# EAGLE library part M15 (library Connectors)
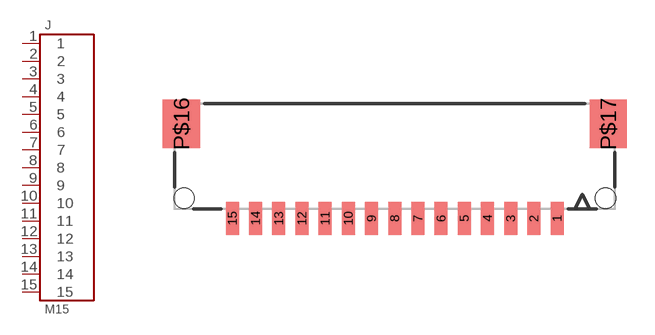
[diagram p13: symbol with the pads of DF14A-15P-1.25H(55); footprint DF14A-15P-1.25H(55)]

Designator prefix J

## M15-DF14A-15P-1.25H(55)  [DF14A-15P-1.25H(55)]
1  1
2  2
3  3
4  4
5  5
6  6
7  7
8  8
9  9
10  10
11  11
12  12
13  13
14  14
15  15

## Footprint DF14A-15P-1.25H(55) (pad centres in mm)
smd 0.7 x 1.8: 1 8.75,-6.2; 2 7.5,-6.2; 3 6.25,-6.2; 4 5,-6.2; 5 3.75,-6.2; 6 2.5,-6.2; 7 1.25,-6.2; 8 0,-6.2; 9 -1.25,-6.2; 10 -2.5,-6.2; 11 -3.75,-6.2; 12 -5,-6.2; 13 -6.25,-6.2; 14 -7.5,-6.2; 15 -8.75,-6.2
smd 2 x 2.6: P$16 -11.5,-1.1; P$17 11.5,-1.1
hole 1.1 at 11.35,-5.1
hole 1.1 at -11.35,-5.1